# Altium schematic symbol library TPS22917DBVR.SchLib: 1 symbol
Pins are listed as number, name and electrical type; pins without a type are passive.

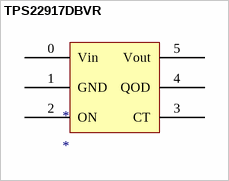
[diagram p0: symbol TPS22917DBVR]

## TPS22917DBVR
designator *
footprint TPS22917DBVR
pins: 0 Vin, 1 GND, 2 ON, 3 CT, 4 QOD, 5 Vout